# Altium footprint library MJ12503A.PcbLib: 1 footprints
Each footprint in its own frame and in the unit in brackets; x right, y up, seen from the top. Pads: shape width x height; smd on the part's side, far side on the other; paste and mask are expansions set on the pad; w line width, h text height; cw(c..) or ccw(c..) is an arc to the next point about the centre after c.
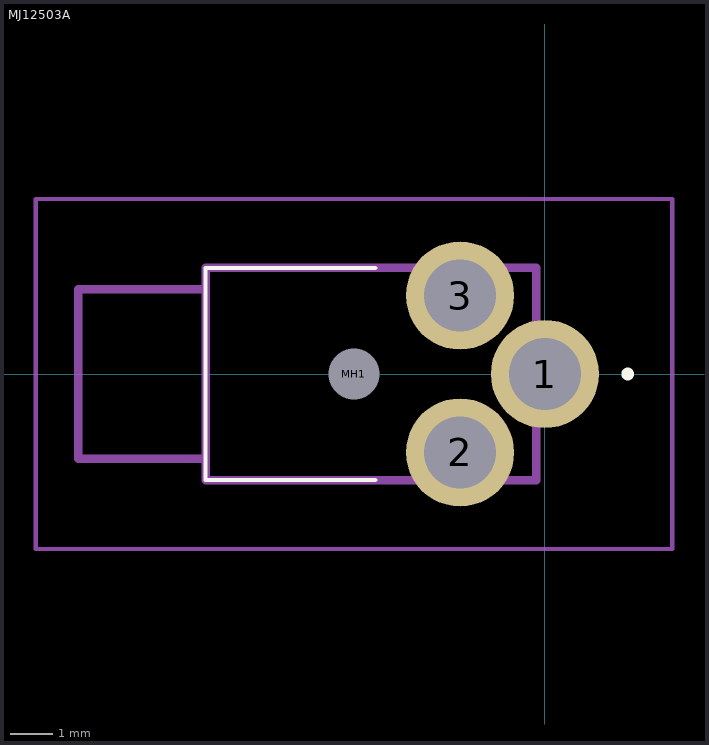
[diagram p0: the footprint, top view; thin cyan lines are the x and y axes]

## MJ12503A [mm]
pads (4):
  round 2.55 hole 1.7: 1(0,0) 2(-2,-1.85) 3(-2,1.85)
  round 0.6 hole 1.2 unplated: MH1(-4.5,0)
Top Overlay:
  lines w0.1: -8,-2.5 -8,2.5 ; -8,-2.5 -8,-2.5 ; -8,-2.5 -8,2.5 ; -8,-2.5 -4,-2.5 ; -8,-2.5 -4,-2.5 ; -8,-2.5 -8,-2.5 ; -8,2.5 -4,2.5 ; -8,2.5 -8,2.5 ; -8,2.5 -4,2.5 ; -8,2.5 -8,2.5 ; -4,-2.5 -4,-2.5 ; -4,2.5 -4,2.5
  lines w0.2: 1.9,0 1.9,0 ; 1.9,0 ccw(c1.95,0) 2,0 ; 1.9,0 cw(c1.95,0) 2,0 ; 1.9,0 1.9,0 ; 1.9,0 ccw(c1.95,0) 2,0 ; 2,0 2,0
Mechanical 15:
  lines w0.2: -11,-2 -8,-2 -8,2 -11,2 -11,-2 ; -8,-2.5 -0.2,-2.5 -0.2,2.5 -8,2.5 -8,-2.5
Mechanical 20:
  lines w0.1: -12,-4.125 3,-4.125 3,4.125 -12,4.125 -12,-4.125